# Altium footprint library HC-SR04_1_2024-03-101.PcbLib: 1 footprints
Each footprint in its own frame and in the unit in brackets; x right, y up, seen from the top. Pads: shape width x height; smd on the part's side, far side on the other; paste and mask are expansions set on the pad; w line width, h text height; cw(c..) or ccw(c..) is an arc to the next point about the centre after c.
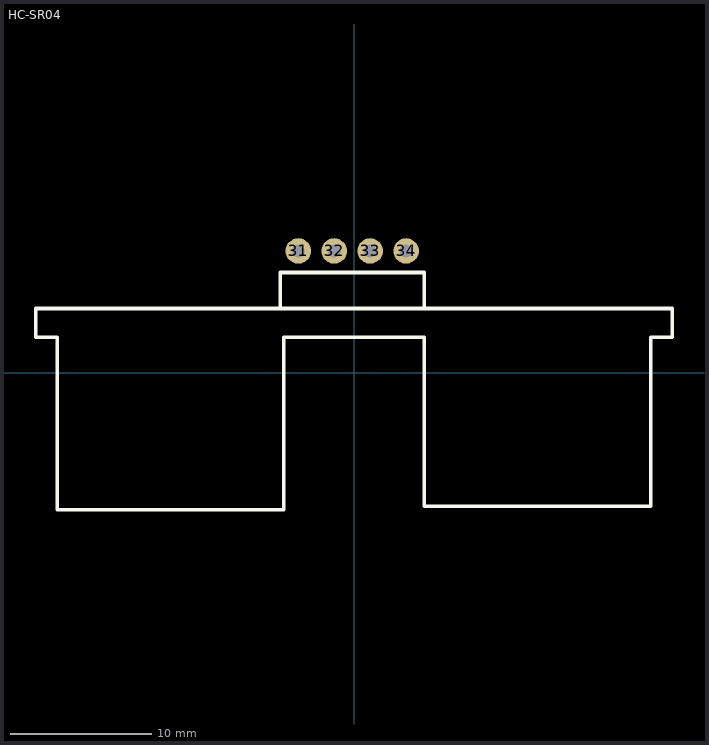
[diagram p0: the footprint, top view; thin cyan lines are the x and y axes]

## HC-SR04 [mm]
pads (4):
  round 1.8 hole 0.914 paste+0 mask+0.102: 31(-3.937,8.608) 32(-1.397,8.608) 33(1.143,8.608) 34(3.683,8.608)
Top Overlay:
  lines w0.254: -22.479,2.512 -22.479,4.544 22.479,4.544 22.479,2.512 20.955,2.512 20.955,-9.426 4.953,-9.426 4.953,2.512 -4.953,2.512 -4.953,-9.68 -20.955,-9.68 -20.955,2.512 -22.479,2.512 ; -5.207,4.544 -5.207,7.084 4.953,7.084 4.953,4.544 -5.207,4.544